# Altium integrated library TI Logic EDAC.IntLib: 3 symbols
Pins are listed as number, name and electrical type; pins without a type are passive.

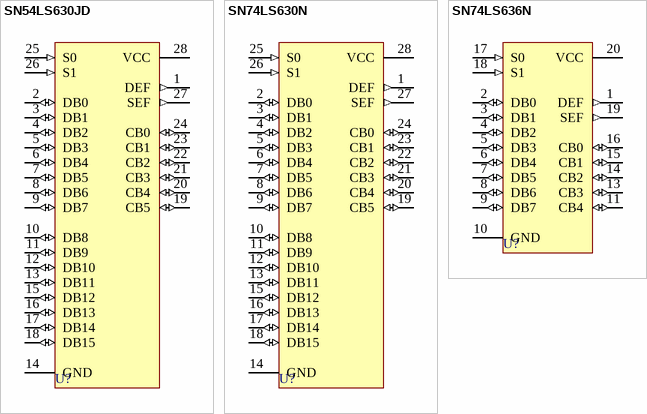
[diagram p0: symbols SN54LS630JD to SN74LS636N]

## SN54LS630JD
designator U?
16-Bit Parallel Error Detection and Correction Circuit; ComponentAvailability: Not Available; Published: 8-Jun-2000; LatestRevisionDate: 04-Mar-2005; LatestRevisionNote: Stylized 3D Model Added.; DatasheetVersion: Mar-1980; PackageVersion: Jun-1997; PackageReference: JD028; Publisher: Altium Limited; PackageDescription: DIP; 28 Leads; Row Spacing 10.16 mm; Pitch 2.54 mm; ComponentLink1Description: Manufacturer Link; ComponentLink1URL: http://www.ti.com/; ComponentLink2Description: Datasheet; ComponentLink2URL: http://www-s.ti.com/sc/ds/sn74ls630.pdf
footprint JD028 (DIP; 28 Leads; Row Spacing 10.16 mm; Pitch 2.54 mm)
3D model JD028 (DIP; 28 Leads; Row Spacing 10.16 mm; Pitch 2.54 mm)
signal-integrity model SN54LS630JD
pins: 1 DEF (out), 2 DB0 (io), 3 DB1 (io), 4 DB2 (io), 5 DB3 (io), 6 DB4 (io), 7 DB5 (io), 8 DB6 (io), 9 DB7 (io), 10 DB8 (io), 11 DB9 (io), 12 DB10 (io), 13 DB11 (io), 14 GND (power), 15 DB12 (io), 16 DB13 (io), 17 DB14 (io), 18 DB15 (io), 19 CB5 (io), 20 CB4 (io), 21 CB3 (io), 22 CB2 (io), 23 CB1 (io), 24 CB0 (io), 25 S0 (in), 26 S1 (in), 27 SEF (out), 28 VCC (power)

## SN74LS630N
designator U?
16-Bit Parallel Error Detection and Correction Circuit; ComponentAvailability: Not Available; Published: 8-Jun-2000; LatestRevisionDate: 04-Mar-2005; LatestRevisionNote: Stylized 3D Model Added.; DatasheetVersion: Mar-1980; PackageVersion: Oct-1994; PackageReference: N028; Publisher: Altium Limited; PackageDescription: DIP; 28 Leads; Row Spacing 15.24 mm; Pitch 2.54 mm; ComponentLink1Description: Manufacturer Link; ComponentLink1URL: http://www.ti.com/; ComponentLink2Description: Datasheet; ComponentLink2URL: http://www-s.ti.com/sc/ds/sn74ls630.pdf
footprint N028 (DIP; 28 Leads; Row Spacing 15.24 mm; Pitch 2.54 mm)
3D model N028 (DIP; 28 Leads; Row Spacing 15.24 mm; Pitch 2.54 mm)
signal-integrity model SN74LS630N
pins: 1 DEF (out), 2 DB0 (io), 3 DB1 (io), 4 DB2 (io), 5 DB3 (io), 6 DB4 (io), 7 DB5 (io), 8 DB6 (io), 9 DB7 (io), 10 DB8 (io), 11 DB9 (io), 12 DB10 (io), 13 DB11 (io), 14 GND (power), 15 DB12 (io), 16 DB13 (io), 17 DB14 (io), 18 DB15 (io), 19 CB5 (io), 20 CB4 (io), 21 CB3 (io), 22 CB2 (io), 23 CB1 (io), 24 CB0 (io), 25 S0 (in), 26 S1 (in), 27 SEF (out), 28 VCC (power)

## SN74LS636N
designator U?
8-Bit Parallel Error Detection and Correction Circuit; Note: Pin 12 is not connected and not drawn; Published: 8-Jun-2000; LatestRevisionDate: 04-Mar-2005; LatestRevisionNote: Stylized 3D Model Added.; DatasheetVersion: Mar-1988; PackageVersion: Oct-1995; PackageReference: N020C; Publisher: Altium Limited; PackageDescription: DIP; 20 Leads; Row Spacing 7.62 mm; Pitch 2.54 mm; ComponentLink1Description: Manufacturer Link; ComponentLink1URL: http://www.ti.com/
footprint N020C (DIP; 20 Leads; Row Spacing 7.62 mm; Pitch 2.54 mm)
3D model N020 (DIP; 20 Leads; Row Spacing 7.62 mm; Pitch 2.54 mm)
signal-integrity model SN74LS636N
pins: 1 DEF (out), 2 DB0 (io), 3 DB1 (io), 4 DB2 (io), 5 DB3 (io), 6 DB4 (io), 7 DB5 (io), 8 DB6 (io), 9 DB7 (io), 10 GND (power), 11 CB4 (io), 13 CB3 (io), 14 CB2 (io), 15 CB1 (io), 16 CB0 (io), 17 S0 (in), 18 S1 (in), 19 SEF (out), 20 VCC (power)